# Altium footprint library transistor.PcbLib: 21 footprints (part 2 of 2)
Each footprint in its own frame and in the unit in brackets; x right, y up, seen from the top. Pads: shape width x height; smd on the part's side, far side on the other; paste and mask are expansions set on the pad; w line width, h text height; cw(c..) or ccw(c..) is an arc to the next point about the centre after c.
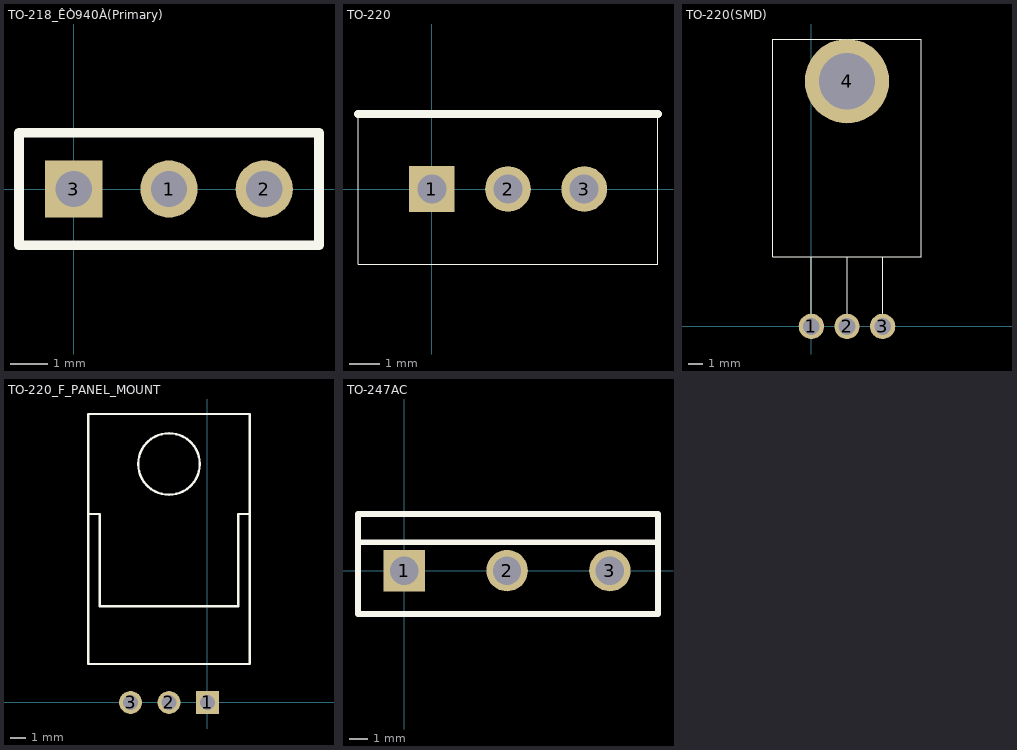
[diagram p1: the footprints below, top view; thin cyan lines are the x and y axes]

## TO-218_ÊÒ940À(Primary) [mil]
pads (3):
  round 60 hole 38: 1(100,0) 2(200,0)
  rect 60x60 hole 38: 3(0,0)
Top Overlay:
  lines w10: -57.48,-59.06 257.48,-59.06 257.48,59.06 -57.48,59.06 -57.48,-59.06

## TO-220 [mil]
pads (3):
  rect 60x60 hole 38: 1(0,0)
  round 60 hole 38: 2(100,0) 3(200,0)
Top Overlay:
  lines w1: -96.85,98.43 -96.85,-98.43 296.85,-98.43 296.85,98.43
  lines w10: -96.85,98.43 296.85,98.43
3D body "User Library-Transistor TO 220.step": height 818.9, standoff -196.85, extent -103.35,-117.13 302.16,60.04

## TO-220(SMD) [mm]
pads (4):
  round 1.8 hole 1.2: 1(0,0) 2(2.54,0) 3(5.08,0)
  round 6 hole 4: 4(2.54,17.45)
Top Overlay:
  lines w0.025: 0,0 0,4.95 ; 2.54,0 2.54,4.95 ; 5.08,0 5.08,4.95 ; -2.76,4.95 7.84,4.95 7.84,20.45 -2.76,20.45 -2.76,4.95

## TO-220_F_PANEL_MOUNT [mil]
pads (3):
  rect 60x60 hole 38: 1(0,0)
  round 60 hole 38: 2(-100,0) 3(-200,0)
Top Overlay:
  circle w5.91: c-100,620 r80
  lines w5.91: -310,490 -280,490 -280,250 80,250 80,490 110,490 ; -310,100 110,100 110,750 -310,750 -310,100

## TO-247AC [mm]
pads (3):
  rect 2.2x2.2 hole 1.5: 1(0,0)
  round 2.2 hole 1.5: 2(5.45,0) 3(10.9,0)
Top Overlay:
  lines w0.3: -2.45,1.5 13.45,1.5 ; -2.45,-2.3 13.45,-2.3 13.45,3 -2.45,3 -2.45,-2.3